# EAGLE library part 615008143521 (library WE_Stecker)
WR-MJ Horizontal Half Shielded 8P8C Modular Jack Tab Down, 8 Pins=>Code : Con_I-O_MJ-H_Half-Shielded_615008143521 <http://katalog.we-online.de/media/images/eican/Con_I-O_MJ-H_Half-Shielded_615008143521_pf2.jpg> Details see: http://katalog.we-online.de/en/em/MJ_HORIZONTAL_HALF_SHIELDED_8P8C_TAB_DOWN Created 2014-07-10, Karrer Zheng 2014 (C) Würth Elektronik
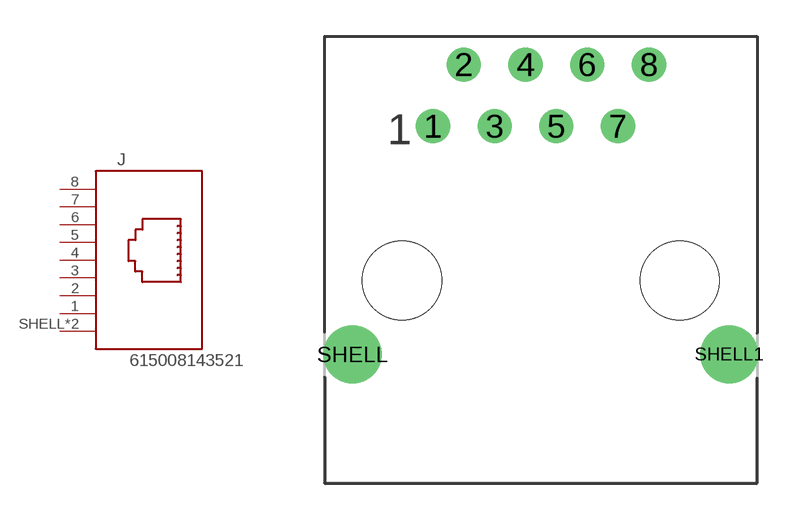
[diagram p117: symbol with the pads of 615008143521; footprint 615008143521]

Designator prefix J

## 615008143521  [615008143521]
1  1  pas
2  2  pas
3  3  pas
4  4  pas
5  5  pas
6  6  pas
7  7  pas
8  8  pas
SHELL  SHIELD  pas
SHELL1  SHIELD  pas

## Footprint 615008143521 (pad centres in mm)
WR-MJ Horizontal Half Shielded 8P8C Modular Jack Tab Down, 8 Pins
drill 0.9: 1 -4.445,6.35; 2 -3.175,8.89; 3 -1.905,6.35; 4 -0.635,8.89; 5 0.635,6.35; 6 1.905,8.89; 7 3.175,6.35; 8 4.445,8.89
drill 1.6: SHELL -7.75,-3.05; SHELL1 7.75,-3.05
hole 3.25 at -5.715,0
hole 3.25 at 5.715,0